# Altium integrated library EEEFTH101XAP.IntLib: 1 symbol
Pins are listed as number, name and electrical type; pins without a type are passive.

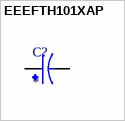
[diagram p0: symbol EEEFTH101XAP]

## EEEFTH101XAP
designator C?
100ÂµF 50V Aluminum Electrolytic Capacitors Radial, Can - SMD 340mOhm @ 100kHz 2000 Hrs @ 105Â°C; MP: EEEFTH101XAP; MF: Panasonic; Package: RADIAL-2 Panasonic; Check_prices: https://www.snapeda.com/parts/EEEFTH101XAP/Panasonic/view-part/4219721/?ref=eda; Value: *; Price: None; Availability: Not in stock; SnapEDA_Link: https://www.snapeda.com/parts/EEEFTH101XAP/Panasonic/view-part/4219721/?ref=snap
footprint CAP_EEEFTH101XAP
pins: 1, 2